# Altium footprint library LEO_COTS_components.PcbLib: 21 footprints (part 2 of 2)
Each footprint in its own frame and in the unit in brackets; x right, y up, seen from the top. Pads: shape width x height; smd on the part's side, far side on the other; paste and mask are expansions set on the pad; w line width, h text height; cw(c..) or ccw(c..) is an arc to the next point about the centre after c.
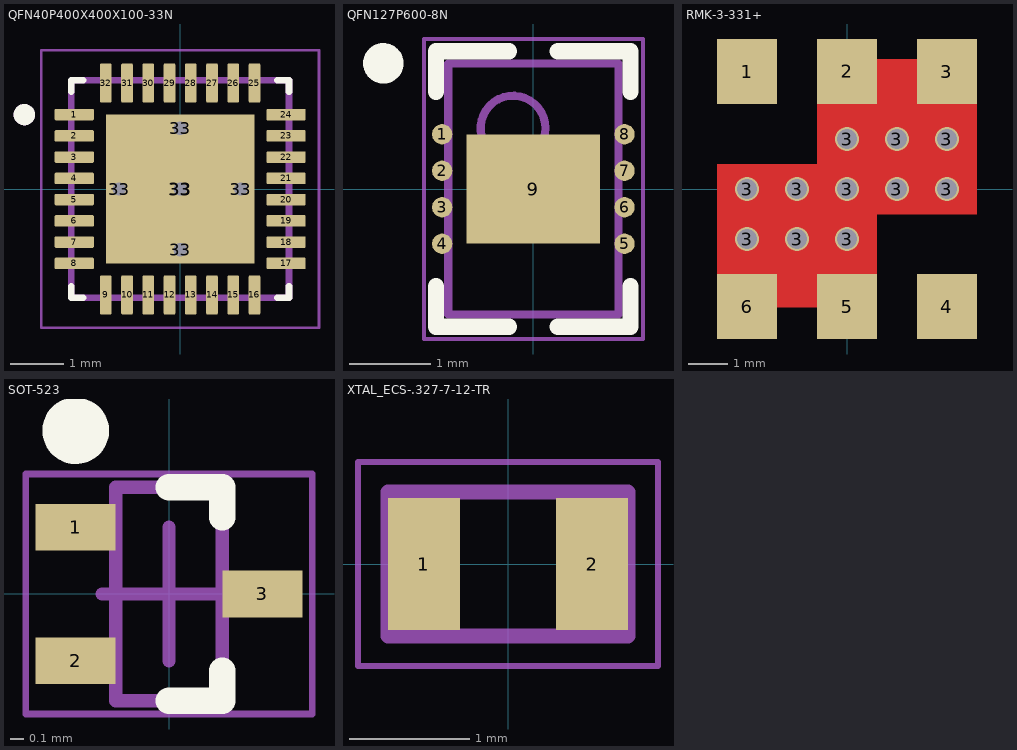
[diagram p1: the footprints below, top view; thin cyan lines are the x and y axes]

## QFN40P400X400X100-33N [mm]
pads (38):
  rrect25% 0.74x0.22 smd: 1(-1.995,1.4) 2(-1.995,1) 3(-1.995,0.6) 4(-1.995,0.2) 5(-1.995,-0.2) 6(-1.995,-0.6) 7(-1.995,-1) 8(-1.995,-1.4) 17(1.995,-1.4) 18(1.995,-1) 19(1.995,-0.6) 20(1.995,-0.2) 21(1.995,0.2) 22(1.995,0.6) 23(1.995,1) 24(1.995,1.4)
  rrect25% 0.22x0.74 smd: 9(-1.4,-1.995) 10(-1,-1.995) 11(-0.6,-1.995) 12(-0.2,-1.995) 13(0.2,-1.995) 14(0.6,-1.995) 15(1,-1.995) 16(1.4,-1.995) 25(1.4,1.995) 26(1,1.995) 27(0.6,1.995) 28(0.2,1.995) 29(-0.2,1.995) 30(-0.6,1.995) 31(-1,1.995) 32(-1.4,1.995)
  round 0.508 hole 0.254: 33(-1.143,0) 33(0,-1.143) 33(0,0) 33(0,1.143) 33(1.143,0)
  rect 2.8x2.8 smd paste-2: 33(0,0)
Top Overlay:
  circle w0.2: c-2.935,1.4 r0.1
  lines w0.127: -2.05,-1.83 -2.05,-2.05 -1.83,-2.05 ; -2.05,1.83 -2.05,2.05 -1.83,2.05 ; 1.83,-2.05 2.05,-2.05 2.05,-1.83 ; 1.83,2.05 2.05,2.05 2.05,1.83
Top Paste:
  region: -0.1,-1.33 -1.33,-1.33 -1.33,-0.1 -0.1,-0.1
  region: 1.33,-1.33 0.1,-1.33 0.1,-0.1 1.33,-0.1
  region: 1.33,0.1 0.1,0.1 0.1,1.33 1.33,1.33
  region: -0.1,0.1 -1.33,0.1 -1.33,1.33 -0.1,1.33
Mechanical 13:
  circle w0.2: c-2.935,1.4 r0.1
  lines w0.127: -2.05,-2.05 -2.05,2.05 2.05,2.05 2.05,-2.05 -2.05,-2.05
Mechanical 15:
  lines w0.05: -2.615,-2.615 -2.615,2.615 2.615,2.615 2.615,-2.615 -2.615,-2.615
3D body: height 1, standoff 0, extent -2,-2 2,2

## QFN127P600-8N [mm]
height 0.8
pads (9):
  round 0.25 smd: 1(-1.125,0.675) 2(-1.125,0.225) 3(-1.125,-0.225) 4(-1.125,-0.675) 5(1.125,-0.675) 6(1.125,-0.225) 7(1.125,0.225) 8(1.125,0.675)
  rect 1.65x1.35 smd: 9(0,0)
Top Overlay:
  circle w0.25: c-1.85,1.55 r0.125
  lines w0.2: -1.2,-1.2 -1.2,-1.7 -0.3,-1.7 ; -1.2,1.2 -1.2,1.7 -0.3,1.7 ; 0.3,-1.7 1.2,-1.7 1.2,-1.2 ; 0.3,1.7 1.2,1.7 1.2,1.2
Mechanical 13:
  circle w0.1: c-0.25,0.75 r0.4
  lines w0.1: -1.05,-1.55 1.05,-1.55 1.05,1.55 -1.05,1.55 -1.05,-1.55
Mechanical 15:
  lines w0.05: -1.35,-1.85 1.35,-1.85 1.35,1.85 -1.35,1.85 -1.35,-1.85
  lines w0.1: -0.5,0 0.5,0 ; 0,-0.5 0,0.5
3D body: height 0.8, standoff 0, extent -1.05,-1.55 1.05,1.55

## RMK-3-331+ [mil] "MiniCircuits TT12245 case"
height 161.42
pads (17):
  rect 60x65 smd: 1(-100,117.5) 2(0,117.52) 3(100,117.5) 4(100,-117.5) 5(0,-117.5) 6(-100,-117.5)
  round 24 hole 20 mask+4: 3(-100,-50) 3(-100,0) 3(-50,-50) 3(-50,0) 3(0,-50) 3(0,0) 3(0,50) 3(50,0) 3(50,50) 3(100,0) 3(100,50)
Top Layer:
  region: -130,25 -130,-118.11 30,-118.11 30,-25 130,-25 130,129.92 -30,129.92 -30,25
3D body: height 160, standoff 0, extent -155,-130 155,130

## SOT-523 [mm]
height 0.75
pads (3):
  rect 0.6x0.35 smd: 1(-0.7,0.5) 2(-0.7,-0.5) 3(0.7,0)
Top Overlay:
  circle w0.25: c-0.7,1.225 r0.125
  lines w0.2: 0,-0.8 0.4,-0.8 0.4,-0.575 ; 0,0.8 0.4,0.8 0.4,0.575
Mechanical 13:
  lines w0.1: -0.4,-0.8 0.4,-0.8 0.4,0.8 -0.4,0.8 -0.4,-0.8
Mechanical 15:
  lines w0.05: -1.075,-0.9 1.075,-0.9 1.075,0.9 -1.075,0.9 -1.075,-0.9
  lines w0.1: -0.5,0 0.5,0 ; 0,-0.5 0,0.5
3D body: height 0.75, standoff 0, extent -0.4,-0.8 0.4,0.8

## XTAL_ECS-.327-7-12-TR [mm]
pads (2):
  rect 0.6x1.1 smd: 1(-0.7,0) 2(0.7,0)
Mechanical 13:
  lines w0.127: -1,-0.6 -1,0.6 1,0.6 1,-0.6 -1,-0.6
Mechanical 15:
  lines w0.05: -1.25,-0.85 -1.25,0.85 1.25,0.85 1.25,-0.85 -1.25,-0.85
3D body: height 0.25, standoff 0, extent -1,-0.6 1,0.6